# EAGLE library part JP4QE (library jumper_single_pad)
JUMPER
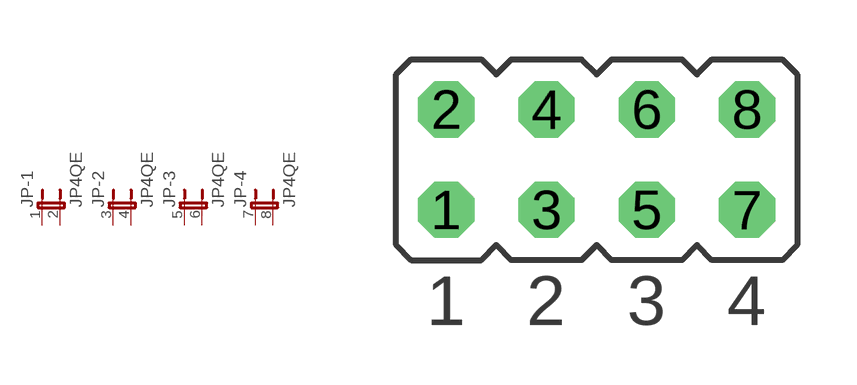
[diagram p1: symbol with the pads of JP4Q; footprint JP4Q]

Designator prefix JP; gates -1=JP2E -2=JP2E -3=JP2E -4=JP2E

## JP4QE  [JP4Q]
1  -1:1  pas
2  -1:2  pas
3  -2:1  pas
4  -2:2  pas
5  -3:1  pas
6  -3:2  pas
7  -4:1  pas
8  -4:2  pas

## Footprint JP4Q (pad centres in mm)
JUMPER
drill 0.914 octagon: 1 -3.81,-1.27; 2 -3.81,1.27; 3 -1.27,-1.27; 4 -1.27,1.27; 5 1.27,-1.27; 6 1.27,1.27; 7 3.81,-1.27; 8 3.81,1.27